# Altium footprint library XCVR_HOLYIOT-18010-NRF52840.PcbLib: 1 footprints
Each footprint in its own frame and in the unit in brackets; x right, y up, seen from the top. Pads: shape width x height; smd on the part's side, far side on the other; paste and mask are expansions set on the pad; w line width, h text height; cw(c..) or ccw(c..) is an arc to the next point about the centre after c.
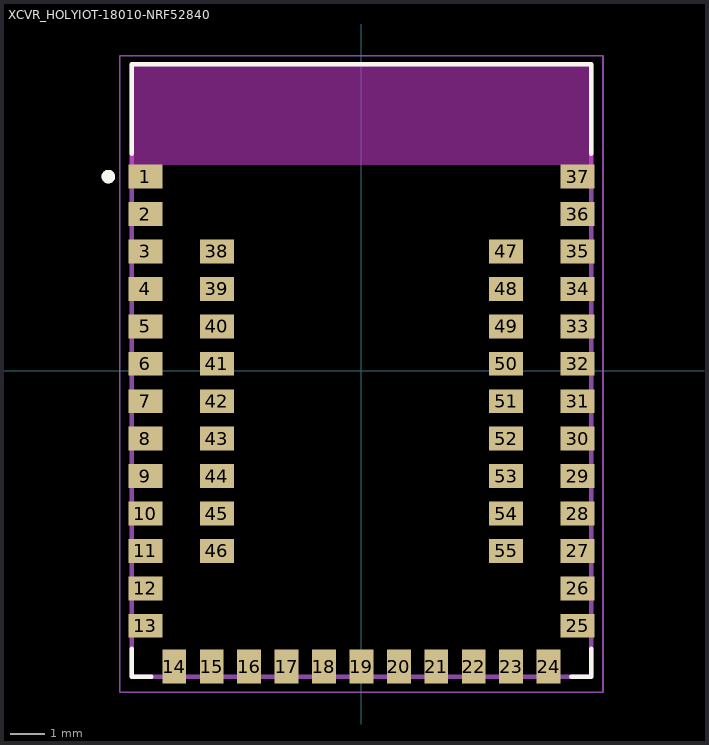
[diagram p0: the footprint, top view; thin cyan lines are the x and y axes]

## XCVR_HOLYIOT-18010-NRF52840 [mm]
pads (55):
  rect 1x0.7 smd: 1(-6.35,5.7) 2(-6.35,4.6) 3(-6.35,3.5) 4(-6.35,2.4) 5(-6.35,1.3) 6(-6.35,0.2) 7(-6.35,-0.9) 8(-6.35,-2) 9(-6.35,-3.1) 10(-6.35,-4.2) 11(-6.35,-5.3) 12(-6.35,-6.4) 13(-6.35,-7.5) 25(6.35,-7.5) 26(6.35,-6.4) 27(6.35,-5.3) 28(6.35,-4.2) 29(6.35,-3.1) 30(6.35,-2) 31(6.35,-0.9) 32(6.35,0.2) 33(6.35,1.3) 34(6.35,2.4) 35(6.35,3.5) 36(6.35,4.6) 37(6.35,5.7) 38(-4.25,3.5) 39(-4.25,2.4) 40(-4.25,1.3) 41(-4.25,0.2) 42(-4.25,-0.9) 43(-4.25,-2) 44(-4.25,-3.1) 45(-4.25,-4.2) 46(-4.25,-5.3) 47(4.25,3.5) 48(4.25,2.4) 49(4.25,1.3) 50(4.25,0.2) 51(4.25,-0.9) 52(4.25,-2) 53(4.25,-3.1) 54(4.25,-4.2) 55(4.25,-5.3)
  rect 0.7x1 smd: 14(-5.5,-8.7) 15(-4.4,-8.7) 16(-3.3,-8.7) 17(-2.2,-8.7) 18(-1.1,-8.7) 19(0,-8.7) 20(1.1,-8.7) 21(2.2,-8.7) 22(3.3,-8.7) 23(4.4,-8.7) 24(5.5,-8.7)
Top Overlay:
  circle w0.2: c-7.436,5.7 r0.1
  lines w0.127: -6.75,-8.17 -6.75,-9 -6.17,-9 ; -6.75,6.37 -6.75,9 6.75,9 6.75,6.37 ; 6.17,-9 6.75,-9 6.75,-8.17
Keep-Out Layer:
  region: 6.8,6.05 -6.8,6.05 -6.8,9 6.8,9
  region: 6.8,6.05 -6.8,6.05 -6.8,9 6.8,9
Mechanical 13:
  circle w0.2: c-7.436,5.7 r0.1
  lines w0.127: -6.75,-9 -6.75,9 6.75,9 6.75,-9 -6.75,-9
Mechanical 15:
  lines w0.05: -7.1,-9.45 -7.1,9.25 7.1,9.25 7.1,-9.45 -7.1,-9.45